# Altium footprint library 05.PcbLib: 12 footprints
Each footprint in its own frame and in the unit in brackets; x right, y up, seen from the top. Pads: shape width x height; smd on the part's side, far side on the other; paste and mask are expansions set on the pad; w line width, h text height; cw(c..) or ccw(c..) is an arc to the next point about the centre after c.
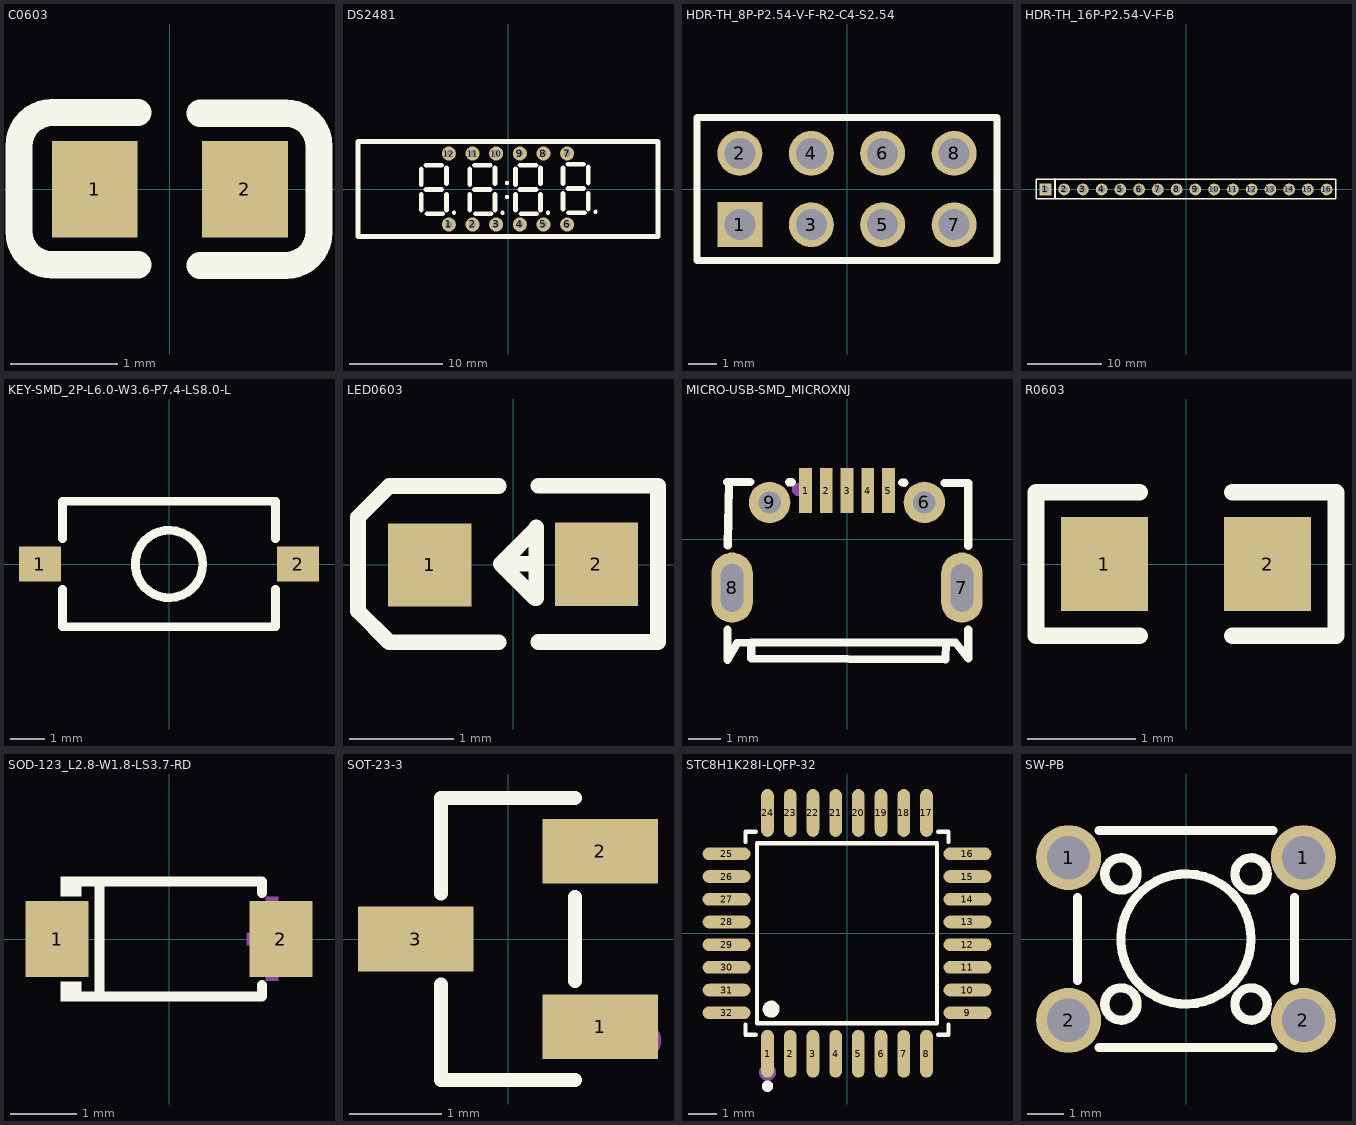
[diagram p0: the footprints below, top view; thin cyan lines are the x and y axes]

## C0603 [mm]
pads (2):
  rect 0.8x0.9 smd: 1(-0.7,0) 2(0.7,0)
Top Overlay:
  lines w0.254: -0.296,-0.704 -1.096,-0.704 cw(c-1.096,-0.394) -1.406,-0.394 -1.405,0.406 cw(c-1.096,0.406) -1.096,0.715 -0.296,0.715 ; 0.28,-0.71 1.08,-0.71 ccw(c1.08,-0.4) 1.39,-0.4 1.39,0.4 ccw(c1.08,0.4) 1.08,0.71 0.28,0.71

## DS2481 [mm] "4位数码管"
height 5.8
pads (12):
  round 1.5 hole 0.75: 1(-6.35,-3.81) 2(-3.81,-3.81) 3(-1.27,-3.81) 4(1.27,-3.81) 5(3.81,-3.81) 6(6.35,-3.81) 7(6.35,3.81) 8(3.81,3.81) 9(1.27,3.81) 10(-1.27,3.81) 11(-3.81,3.81) 12(-6.35,3.81)
Top Overlay:
  circle w0.254: c-5.8,-2.55 r0.1
  circle w0.254: c-0.1,0.65 r0.1
  circle w0.254: c-0.1,-0.85 r0.1
  circle w0.254: c-0.6,-2.55 r0.1
  circle w0.254: c4.3,-2.55 r0.1
  circle w0.254: c9.4,-2.45 r0.1
  lines w0.508: -9.3,-2.25 -9.3,-0.55 ; -9.3,0.45 -9.3,2.15 ; -8.8,-0.05 -7.1,-0.05 ; -8.8,2.55 -7.1,2.55 ; -8.7,-2.65 -7,-2.65 ; -6.6,-2.25 -6.6,-0.55 ; -6.6,0.55 -6.6,2.25 ; -4.1,-2.25 -4.1,-0.55 ; -4.1,0.45 -4.1,2.15 ; -3.6,-0.05 -1.9,-0.05 ; -3.6,2.55 -1.9,2.55 ; -3.5,-2.65 -1.8,-2.65 ; -1.4,-2.25 -1.4,-0.55 ; -1.4,0.55 -1.4,2.25 ; 0.8,-2.25 0.8,-0.55 ; 0.8,0.45 0.8,2.15 ; 1.3,-0.05 3,-0.05 ; 1.3,2.55 3,2.55 ; 1.4,-2.65 3.1,-2.65 ; 3.5,-2.25 3.5,-0.55 ; 3.5,0.55 3.5,2.25 ; 5.9,-2.15 5.9,-0.45 ; 5.9,0.55 5.9,2.25 ; 6.4,0.05 8.1,0.05 ; 6.4,2.65 8.1,2.65 ; 6.5,-2.55 8.2,-2.55 ; 8.6,-2.15 8.6,-0.45 ; 8.6,0.65 8.6,2.35 ; 16.1,-5.1 -16.1,-5.1 -16.1,5.1 16.1,5.1 16.1,-5

## HDR-TH_8P-P2.54-V-F-R2-C4-S2.54 [mm]
pads (8):
  rect 1.6x1.6 hole 1.1: 1(-3.81,-1.27)
  round 1.6 hole 1.1: 2(-3.81,1.27) 3(-1.27,-1.27) 4(-1.27,1.27) 5(1.27,-1.27) 6(1.27,1.27) 7(3.81,-1.27) 8(3.81,1.27)
Top Overlay:
  lines w0.254: -5.334,-2.54 -5.334,2.54 5.334,2.54 5.334,-2.54 -5.334,-2.54

## HDR-TH_16P-P2.54-V-F-B [mm]
pads (16):
  rect 1.6x1.6 hole 1: 1(-19.05,0)
  round 1.6 hole 1: 2(-16.51,0) 3(-13.97,0) 4(-11.43,0) 5(-8.89,0) 6(-6.35,0) 7(-3.81,0) 8(-1.27,0) 9(1.27,0) 10(3.81,0) 11(6.35,0) 12(8.89,0) 13(11.43,0) 14(13.97,0) 15(16.51,0) 16(19.05,0)
Top Overlay:
  lines w0.203: -20.32,-1.27 -20.32,1.397 20.32,1.397 20.32,-1.27 -20.32,-1.27
  lines w0.254: -17.741,-1.143 -17.741,1.397

## KEY-SMD_2P-L6.0-W3.6-P7.4-LS8.0-L [mm]
pads (2):
  rect 1.2x1 smd: 1(-3.7,0) 2(3.7,0)
Top Overlay:
  circle w0.254: c0,0 r0.967
  lines w0.254: -3.048,-0.725 -3.048,-1.8 0,-1.8 3.048,-1.8 3.048,-0.725 ; -3.048,0.725 -3.048,1.8 0,1.8 3.048,1.8 3.048,0.725

## LED0603 [mm]
pads (2):
  rect 0.8x0.8 smd: 1(-0.799,-0.003) 2(0.799,0.004)
Top Overlay:
  lines w0.15: -0.14,-0.746 -1.19,-0.746 -1.49,-0.446 -1.49,-0.346 -1.49,0.354 -1.49,0.454 -1.19,0.754 -0.14,0.754 ; 0.22,0.007 -0.12,0.007 ; 0.24,-0.744 1.39,-0.744 ; 0.24,0.757 1.39,0.757 1.39,-0.723 ; -0.12,0.007 0.21,-0.324 0.22,-0.324 0.22,0.357 0.22,0.347 -0.12,0.007
Mechanical 15:
  region: -1.07,0.062 -0.53,0.062 -0.53,-0.068 -1.07,-0.068
  region: 0.735,-0.267 0.735,0.273 0.865,0.273 0.865,-0.267
  region: 0.529,0.068 1.069,0.068 1.069,-0.062 0.529,-0.062

## MICRO-USB-SMD_MICROXNJ [mm]
pads (9):
  rect 0.4x1.4 smd: 1(-1.3,1.521) 2(-0.65,1.521) 3(0,1.521) 4(0.65,1.521) 5(1.3,1.521)
  round 1.3 hole 0.7: 6(2.425,1.149) 9(-2.425,1.149)
  oval 1.3x2.2 hole 0.7 slot 1.5 at 90 deg: 7(3.6,-1.521) 8(-3.6,-1.521)
Top Overlay:
  lines w0.254: -3.76,1.79 -3.031,1.787 ; -3.745,-2.84 -3.75,-3.78 -3.45,-3.26 -3,-3.24 ; -3.733,-0.2 -3.732,-0.026 ; -3.731,0.007 -3.735,-0.201 -3.7,1.76 ; -1.814,1.782 -1.731,1.782 ; 1.731,1.768 1.799,1.768 ; 3.056,1.763 3.8,1.76 3.8,-0.213 ; 3.8,-2.829 3.8,-3.74 3.4,-3.24 3.1,-3.24 ; -3,-3.24 3.1,-3.24 ; -3,-3.24 -3,-3.74 3.09,-3.77 3.1,-3.24
Top Paste:
  circle w0.65: c2.425,1.149 r0.325
  circle w0.65: c-2.425,1.149 r0.325
  region: -1.1,2.221 -1.5,2.221 -1.5,1.021 -1.5,0.821 -1.1,0.821
  region: -0.45,2.221 -0.85,2.221 -0.85,1.021 -0.85,0.821 -0.45,0.821
  region: 0.2,2.221 -0.2,2.221 -0.2,1.021 -0.2,0.821 0.2,0.821
  region: 0.85,2.221 0.45,2.221 0.45,1.021 0.45,0.821 0.85,0.821
  region: 1.5,2.221 1.1,2.221 1.1,1.021 1.1,0.821 1.5,0.821
  region: -4.256,-1.071 -4.233,-0.902 -4.168,-0.743 -4.063,-0.608 -3.928,-0.503 -3.77,-0.438 -3.6,-0.416 -3.43,-0.438 -3.272,-0.503 -3.136,-0.608 -3.032,-0.743 -2.967,-0.902 -2.944,-1.071 -2.95,-1.071 -2.944,-1.971 -2.967,-2.141 -3.032,-2.299 -3.136,-2.435 -3.272,-2.539 -3.43,-2.605 -3.6,-2.627 -3.77,-2.605 -3.928,-2.539 -4.063,-2.435 -4.168,-2.299 -4.233,-2.141 -4.256,-1.971 -4.25,-1.971
  region: 2.944,-1.071 2.967,-0.902 3.032,-0.743 3.136,-0.608 3.272,-0.503 3.43,-0.438 3.6,-0.416 3.77,-0.438 3.928,-0.503 4.064,-0.608 4.168,-0.743 4.233,-0.902 4.256,-1.071 4.25,-1.071 4.256,-1.971 4.233,-2.141 4.168,-2.299 4.064,-2.435 3.928,-2.539 3.77,-2.605 3.6,-2.627 3.43,-2.605 3.272,-2.539 3.136,-2.435 3.032,-2.299 2.967,-2.141 2.944,-1.971 2.95,-1.971
Mechanical 15:
  circle w0.2: c-1.53,1.554 r0.1

## R0603 [mm]
pads (2):
  rect 0.806x0.864 smd: 1(-0.753,0) 2(0.753,0)
Top Overlay:
  lines w0.152: -0.426,-0.661 -1.385,-0.661 -1.385,0.661 -0.426,0.661 ; 0.426,-0.661 1.385,-0.661 1.385,0.661 0.426,0.661
Top Paste:
  region: 1.195,0.45 0.395,0.45 0.345,0.4 0.345,0.172 0.715,0.172 0.715,-0.158 0.345,-0.158 0.345,-0.4 0.395,-0.45 1.195,-0.45 1.245,-0.4 1.245,0.4
  region: -0.355,0.4 -0.355,0.172 -0.735,0.172 -0.735,-0.158 -0.355,-0.158 -0.355,-0.4 -0.405,-0.45 -1.195,-0.45 -1.245,-0.4 -1.245,0.4 -1.195,0.45 -0.405,0.45

## SOD-123_L2.8-W1.8-LS3.7-RD [mm]
pads (2):
  rect 0.95x1.15 smd: 1(-1.693,0) 2(1.693,0)
Top Overlay:
  region: -1.33,-0.942 -1.33,-0.647 -1.635,-0.647 -1.635,-0.942
  region: -1.33,0.942 -1.33,0.647 -1.635,0.647 -1.635,0.942
  lines w0.152: -1.406,-0.866 1.406,-0.866 1.406,-0.698 ; -1.406,0.866 1.406,0.866 1.406,0.698 ; -1.049,-0.866 -1.049,0.866
Mechanical 15:
  region: 1.651,0.635 1.651,-0.629 1.461,-0.629 1.461,0.635
  region: 1.935,0.098 1.935,-0.092 1.177,-0.092 1.177,0.098
  region: -2.03,0.095 -2.03,-0.095 -1.272,-0.095 -1.272,0.095

## SOT-23-3 [mm] "SOT-23-3_L2.9-W1.3-P1.90-LS2.4-BR"
pads (3):
  rect 1.25x0.7 smd: 1(1,-0.95) 2(1,0.95) 3(-1,0)
Top Overlay:
  lines w0.152: -0.726,-0.495 -0.726,-1.526 0.726,-1.526 ; -0.726,0.495 -0.726,1.526 0.726,1.526 ; 0.726,-0.455 0.726,0.455
Mechanical 15:
  circle w0.2: c1.46,-1.1 r0.1

## STC8H1K28I-LQFP-32 [mm] "LQFP-32_L7.0-W7.0-P0.80-LS9.0-BL"
pads (32):
  oval 0.448x1.684 smd: 1(-2.8,-4.242) 2(-2,-4.242) 3(-1.2,-4.242) 4(-0.4,-4.242) 5(0.4,-4.242) 6(1.2,-4.242) 7(2,-4.242) 8(2.8,-4.242) 17(2.8,4.242) 18(2,4.242) 19(1.2,4.242) 20(0.4,4.242) 21(-0.4,4.242) 22(-1.2,4.242) 23(-2,4.242) 24(-2.8,4.242)
  oval 1.684x0.448 smd: 9(4.242,-2.8) 10(4.242,-2) 11(4.242,-1.2) 12(4.242,-0.4) 13(4.242,0.4) 14(4.242,1.2) 15(4.242,2) 16(4.242,2.8) 25(-4.242,2.8) 26(-4.242,2) 27(-4.242,1.2) 28(-4.242,0.4) 29(-4.242,-0.4) 30(-4.242,-1.2) 31(-4.242,-2) 32(-4.242,-2.8)
Top Overlay:
  circle w0.3: c-2.671,-2.671 r0.15
  circle w0.2: c-2.8,-5.384 r0.1
  lines w0.152: -3.576,-3.214 -3.576,-3.576 -3.214,-3.576 ; -3.576,3.214 -3.576,3.576 -3.214,3.576 ; 3.214,-3.576 3.576,-3.576 3.576,-3.214 ; 3.214,3.576 3.576,3.576 3.576,3.214 ; -3.171,-3.171 3.171,-3.171 3.171,3.171 -3.171,3.171 -3.171,-3.171
Mechanical 15:
  circle w0.3: c-2.8,-4.9 r0.15

## SW-PB [mm] "SW-TH_4P-L6.0-W6.0-P4.50-LS6.5"
pads (4):
  round 1.8 hole 1.2: 1(-3.25,2.25) 1(3.25,2.25) 2(-3.25,-2.25) 2(3.25,-2.25)
Top Overlay:
  circle w0.254: c1.8,-1.8 r0.447
  circle w0.254: c-1.8,-1.8 r0.447
  circle w0.254: c-1.8,1.8 r0.447
  circle w0.254: c1.8,1.8 r0.447
  circle w0.254: c0,0 r1.8
  lines w0.254: -3,-1.147 -3,1.147 ; -2.404,-3 2.404,-3 ; -2.404,3 2.404,3 ; 3,-1.147 3,1.147